# EAGLE library part LCD_I2C_AQM (library 12_module)
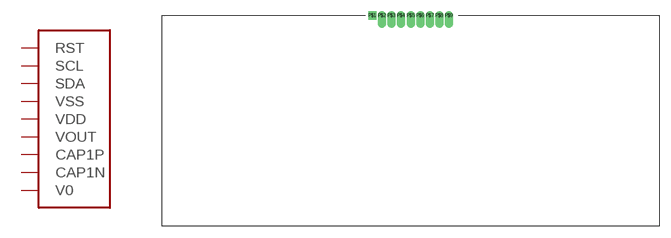
[diagram p3: symbol with the pads of AQM1602; footprint AQM1602]

Designator prefix -

## LCD_I2C_AQM  [AQM1602]
P$1  RST
P$2  SCL
P$3  SDA
P$4  VSS
P$5  VDD
P$6  VOUT
P$7  CAP1P
P$8  CAP1N
P$9  V0

## Footprint AQM1602 (pad centres in mm)
drill 0.6 pad 0.813 square: P$1 -5.08,0
drill 0.6 pad 0.813 offset: P$2 -3.81,0; P$3 -2.54,0; P$4 -1.27,0; P$5 0,0; P$6 1.27,0; P$7 2.54,0; P$8 3.81,0; P$9 5.08,0